# Altium footprint library PoESP_ConnectorBoard.PcbLib: 7 footprints
Each footprint in its own frame and in the unit in brackets; x right, y up, seen from the top. Pads: shape width x height; smd on the part's side, far side on the other; paste and mask are expansions set on the pad; w line width, h text height; cw(c..) or ccw(c..) is an arc to the next point about the centre after c.
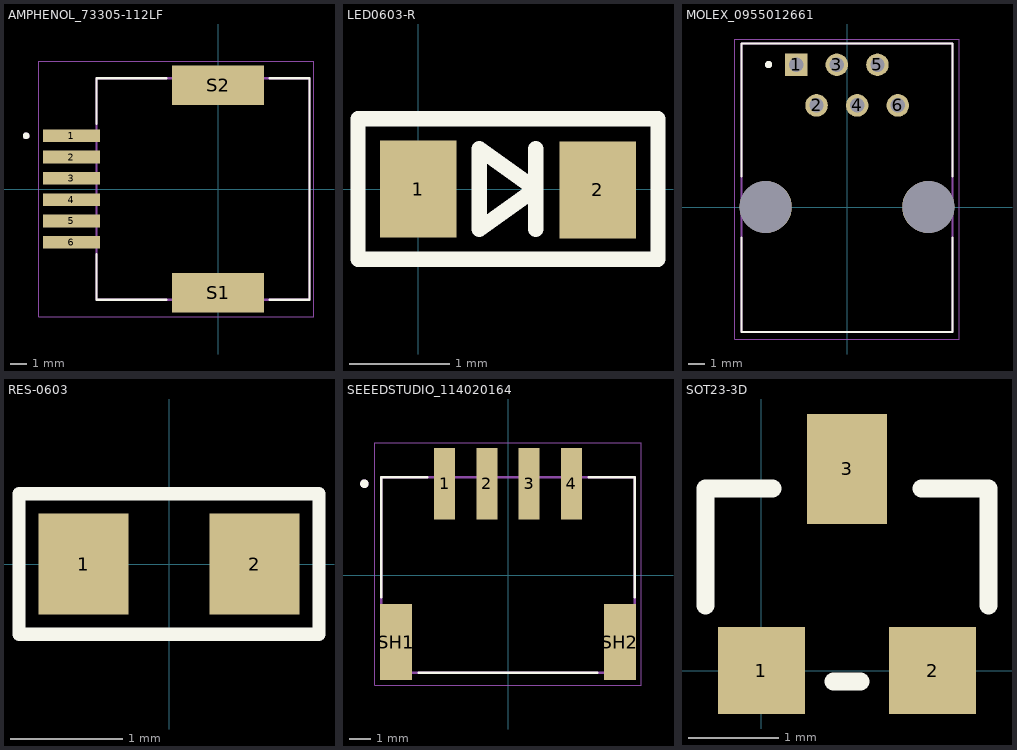
[diagram p0: the footprints below, top view; thin cyan lines are the x and y axes]

## AMPHENOL_73305-112LF [mm]
height 14.5
pads (8):
  rect 3.4x0.76 smd: 1(-8.75,3.175) 2(-8.75,1.905) 3(-8.75,0.635) 4(-8.75,-0.635) 5(-8.75,-1.905) 6(-8.75,-3.175)
  rect 5.5x2.35 smd: S1(0,-6.2) S2(0,6.2)
Top Overlay:
  circle w0.2: c-11.45,3.175 r0.1
  lines w0.127: -7.25,-3.875 -7.25,-6.605 -3.07,-6.605 ; -7.25,3.875 -7.25,6.605 -3.07,6.605 ; 3.07,-6.605 5.45,-6.605 5.45,6.605 3.07,6.605
Mechanical 13:
  circle w0.2: c-11.45,3.175 r0.1
  lines w0.127: -7.25,-6.605 5.45,-6.605 5.45,6.605 -7.25,6.605 -7.25,-6.605
Mechanical 15:
  lines w0.05: -10.7,-7.625 5.7,-7.625 5.7,7.625 -10.7,7.625 -10.7,-7.625
3D body "step_temp.STEP": height 14.5, standoff 0, extent -9.682,-6.855 5.618,6.855

## LED0603-R [mil]
pads (2):
  rect 30x38 smd: 1(0,0) 2(70.31,-0.31)
Top Overlay:
  lines w6: 45.98,-15.75 45.98,15.75 ; -23.62,-27.56 93.94,-27.56 93.94,27.56 -23.62,27.56 -23.62,-27.56 ; 23.91,-15.75 45.98,0 23.91,15.75 23.91,-15.75
3D body "SMD_0603LED_RED.STEP": height 38.43, standoff 3.78, extent 3.2,-19.68 66.82,19.69

## MOLEX_0955012661 [mm]
pads (8):
  rect 1.408x1.408 hole 0.9: 1(-3.175,8.89)
  round 1.408 hole 0.9: 2(-1.905,6.35) 3(-0.635,8.89) 4(0.635,6.35) 5(1.905,8.89) 6(3.175,6.35)
  round 3.25 hole 3.25 unplated: ""(-5.08,0) ""(5.08,0)
Top Overlay:
  circle w0.25: c-4.9,8.9 r0.1
  lines w0.127: -6.605,-1.9 -6.605,-7.8 6.605,-7.8 6.605,-1.9 ; -6.605,1.9 -6.605,10.22 6.605,10.22 6.605,1.9
Mechanical 13:
  lines w0.127: -6.605,-7.8 -6.605,10.22 6.605,10.22 6.605,-7.8 -6.605,-7.8
Mechanical 15:
  lines w0.05: -7,-8.25 -7,10.5 7,10.5 7,-8.25 -7,-8.25
3D body "0955012661.stp": height 11.51, standoff -3.29, extent -6.605,-7.874 6.605,10.226

## PCBComponent_1 [mm]

## RES-0603 [mm]
pads (2):
  rect 0.8x0.9 smd: 1(-0.762,0) 2(0.762,0)
Top Overlay:
  lines w0.12: -1.337,-0.625 -1.337,0.625 1.336,0.625 1.336,-0.625 -1.337,-0.625
3D body "0603 resistor.STEP": height 0.45, standoff 0, extent -0.8,-0.381 0.8,0.419

## SEEEDSTUDIO_114020164 [mm]
height 5.45
pads (6):
  rect 1x3.4 smd: 1(-3,4.325) 2(-1,4.325) 3(1,4.325) 4(3,4.325)
  rect 1.5x3.6 smd: SH1(-5.3,-3.175) SH2(5.3,-3.175)
Top Overlay:
  circle w0.2: c-6.8,4.325 r0.1
  lines w0.127: -6,-1.055 -6,4.625 -3.82,4.625 ; -4.23,-4.625 4.23,-4.625 ; 3.82,4.625 6,4.625 6,-1.055
Mechanical 13:
  circle w0.2: c-6.8,4.325 r0.1
  lines w0.127: -6,-4.625 -6,4.625 6,4.625 6,-4.625 -6,-4.625
Mechanical 15:
  lines w0.05: -6.3,-5.225 -6.3,6.275 6.3,6.275 6.3,-5.225 -6.3,-5.225
3D body "step_temp.STEP": height 5.2, standoff 0, extent -6,-5.15 6,5.15

## SOT23-3D [mm]
pads (3):
  rect 0.965x0.965 smd: 1(0,0) 2(1.9,0)
  rect 0.889x1.219 smd: 3(0.95,2.24)
Top Overlay:
  lines w0.2: -0.62,0.72 -0.62,2.02 0.125,2.02 ; 0.8,-0.119 1.1,-0.119 ; 1.775,2.02 2.52,2.02 2.52,0.72
3D body "DBZ0003A.stp": height 1, standoff 0, extent -0.51,-0.15 2.41,2.39